# EAGLE library part MC14029BCPG (library ON Semiconductor_By_element14_Batch_1)
Binary/Decade Up/Down Counter
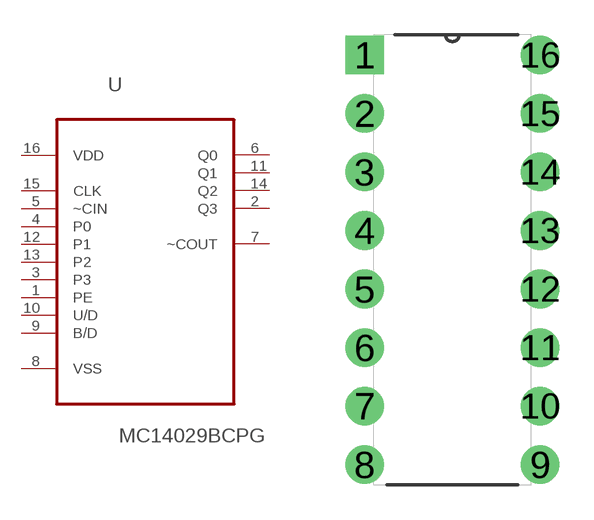
[diagram p222: symbol with the pads of DIP254P762X444-16; footprint DIP254P762X444-16]

Designator prefix U

## MC14029BCPG (MPN: MC14029BCPG; OC_FARNELL: 9664629; OC_NEWARK: 45J1041; P1I: o; PACKAGE: PDIP-16; SUPPLIER: ON SEMICONDUCTOR)  [DIP254P762X444-16]
1  PE  in
2  Q3  out
3  P3  in
4  P0  in
5  ~CIN  in
6  Q0  out
7  ~COUT  out
8  VSS  pas
9  B/D  in
10  U/D  in
11  Q1  out
12  P1  in
13  P2  in
14  Q2  out
15  CLK  in
16  VDD  pwr

## Footprint DIP254P762X444-16 (pad centres in mm)
drill 1.118 square: 1 -7.62,17.78
drill 1.118: 2 -7.62,15.24; 3 -7.62,12.7; 4 -7.62,10.16; 5 -7.62,7.62; 6 -7.62,5.08; 7 -7.62,2.54; 8 -7.62,0; 9 0,0; 10 0,2.54; 11 0,5.08; 12 0,7.62; 13 0,10.16; 14 0,12.7; 15 0,15.24; 16 0,17.78